# EAGLE library part SSD_1306_STM32_OLED (library hugo)
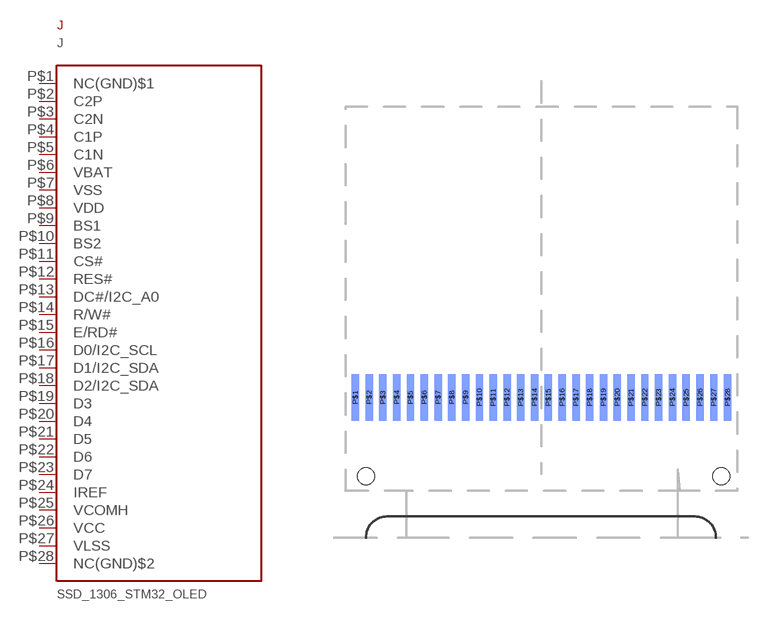
[diagram p6: symbol with the pads of SSD_1306_STM32_OLED; footprint SSD_1306_STM32_OLED]

Designator prefix J

## SSD_1306_STM32_OLED  [SSD_1306_STM32_OLED]
P$1  NC(GND)$1  in
P$2  C2P  in
P$3  C2N  in
P$4  C1P  in
P$5  C1N  in
P$6  VBAT  in
P$7  VSS  pwr
P$8  VDD  pwr
P$9  BS1  in
P$10  BS2  in
P$11  CS#  in
P$12  RES#  in
P$13  DC#/I2C_A0  in
P$14  R/W#  in
P$15  E/RD#  in
P$16  D0/I2C_SCL
P$17  D1/I2C_SDA
P$18  D2/I2C_SDA
P$19  D3
P$20  D4
P$21  D5
P$22  D6
P$23  D7
P$24  IREF  in
P$25  VCOMH  out
P$26  VCC  pwr
P$27  VLSS  pwr
P$28  NC(GND)$2  in

## Footprint SSD_1306_STM32_OLED (pad centres in mm)
smd 0.35 x 2.2 bottom: P$1 0,-0.4; P$2 0.65,-0.4; P$3 1.3,-0.4; P$4 1.95,-0.4; P$5 2.6,-0.4; P$6 3.25,-0.4; P$7 3.9,-0.4; P$8 4.55,-0.4; P$9 5.2,-0.4; P$10 5.85,-0.4; P$11 6.5,-0.4; P$12 7.15,-0.4; P$13 7.8,-0.4; P$14 8.45,-0.4; P$15 9.1,-0.4; P$16 9.75,-0.4; P$17 10.4,-0.4; P$18 11.05,-0.4; P$19 11.7,-0.4; P$20 12.35,-0.4; P$21 13,-0.4; P$22 13.65,-0.4; P$23 14.3,-0.4; P$24 14.95,-0.4; P$25 15.6,-0.4; P$26 16.25,-0.4; P$27 16.9,-0.4; P$28 17.55,-0.4
hole 0.8 at 0.5,-4.1
hole 0.8 at 17.25,-4.1